# Altium footprint library Wilamp-st.PcbLib: 5 footprints
Each footprint in its own frame and in the unit in brackets; x right, y up, seen from the top. Pads: shape width x height; smd on the part's side, far side on the other; paste and mask are expansions set on the pad; w line width, h text height; cw(c..) or ccw(c..) is an arc to the next point about the centre after c.
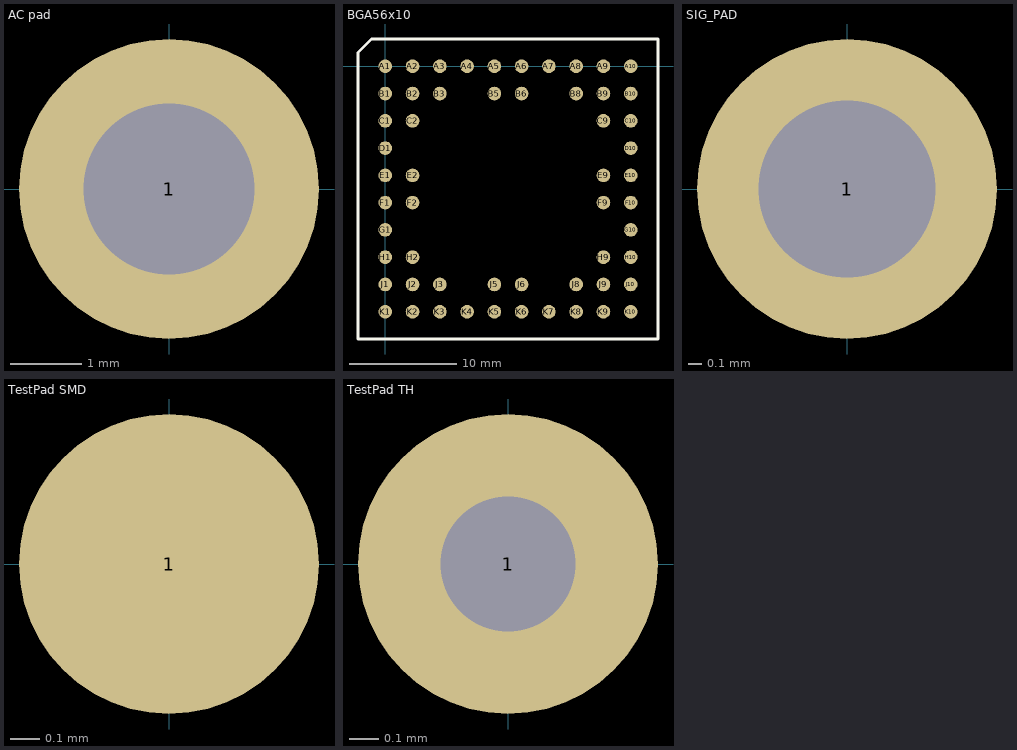
[diagram p0: the footprints below, top view; thin cyan lines are the x and y axes]

## AC pad [mm] "Hole2.4mm_Pad4.2mm"
pads (1):
  round 4.2 hole 2.4: 1(0,0)

## BGA56x10 [mil]
pads (56):
  round 50 smd: A1(0,0) A2(100,0) A3(200,0) A4(300,0) A5(400,0) A6(500,0) A7(600,0) A8(700,0) A9(800,0) A10(900,0) B1(0,-100) B2(100,-100) B3(200,-100) B5(400,-100) B6(500,-100) B8(700,-100) B9(800,-100) B10(900,-100) C1(0,-200) C2(100,-200) C9(800,-200) C10(900,-200) D1(0,-300) D10(900,-300) E1(0,-400) E2(100,-400) E9(800,-400) E10(900,-400) F1(0,-500) F2(100,-500) F9(800,-500) F10(900,-500) G1(0,-600) G10(900,-600) H1(0,-700) H2(100,-700) H9(800,-700) H10(900,-700) J1(0,-800) J2(100,-800) J3(200,-800) J5(400,-800) J6(500,-800) J8(700,-800) J9(800,-800) J10(900,-800) K1(0,-900) K2(100,-900) K3(200,-900) K4(300,-900) K5(400,-900) K6(500,-900) K7(600,-900) K8(700,-900) K9(800,-900) K10(900,-900)
Top Overlay:
  lines w10: -100,-1000 -100,50 -50,100 1000,100 1000,-1000 -100,-1000

## SIG_PAD [mm] "Hole1.3mm_Pad2.2mm"
pads (1):
  round 2.2 hole 1.3: 1(0,0)

## TestPad SMD [mil]
pads (1):
  round 40 smd: 1(0,0)

## TestPad TH [mil]
pads (1):
  round 40 / inner round 30 / far side round 30 hole 18: 1(0,0)